# EAGLE library part FSA2257 (library Skoba)
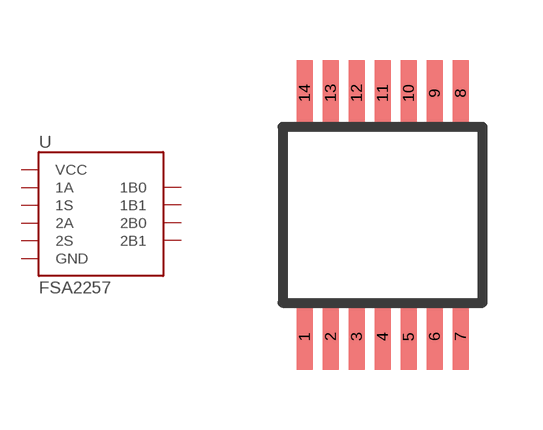
[diagram p44: symbol with the pads of TSSOP-14; footprint TSSOP-14]

Designator prefix U

## FSA2257TSSOP  [TSSOP-14]
1  1A
2  GND  pwr
3  1B0
4  2A
5  GND  pwr
6  2B0
9  2B1
10  2S  in
11  VCC  pwr
12  1B1
13  1S  in
14  VCC  pwr

## Footprint TSSOP-14 (pad centres in mm)
TSSOP14 Thin Shrink Small Outline Package, 0.65 mm Pitch
smd 0.4 x 1.65: 1 -1.95,-3.05; 2 -1.3,-3.05; 3 -0.65,-3.05; 4 0,-3.05; 5 0.65,-3.05; 6 1.3,-3.05; 7 1.95,-3.05; 8 1.95,3.05; 9 1.3,3.05; 10 0.65,3.05; 11 0,3.05; 12 -0.65,3.05; 13 -1.3,3.05; 14 -1.95,3.05